# Altium footprint library IEEE_Workshop_Footprints.PcbLib: 26 footprints (part 2 of 2)
Each footprint in its own frame and in the unit in brackets; x right, y up, seen from the top. Pads: shape width x height; smd on the part's side, far side on the other; paste and mask are expansions set on the pad; w line width, h text height; cw(c..) or ccw(c..) is an arc to the next point about the centre after c.
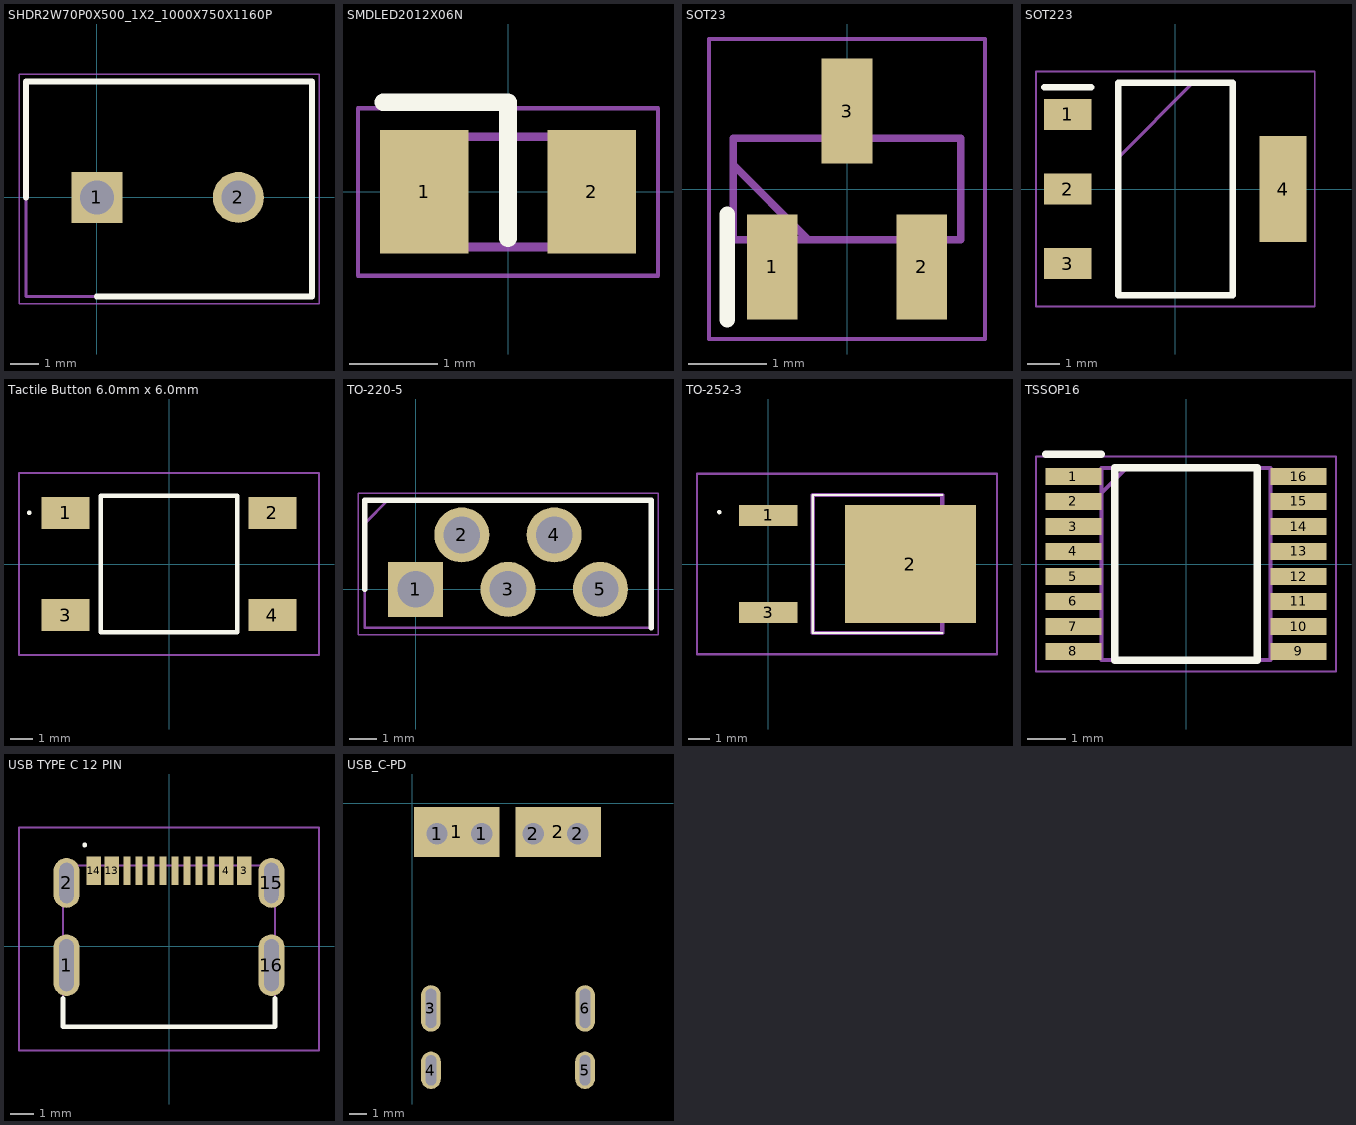
[diagram p1: the footprints below, top view; thin cyan lines are the x and y axes]

## SHDR2W70P0X500_1X2_1000X750X1160P [mm]
pads (2):
  rect 1.8x1.8 hole 1.2: 1(0,0)
  round 1.8 hole 1.2: 2(5,0)
Top Overlay:
  lines w0.2: -2.5,0 -2.5,4.1 7.6,4.1 7.6,-3.5 0,-3.5
Mechanical 13:
  lines w0.1: -2.5,-3.5 7.6,-3.5 7.6,4.1 -2.5,4.1 -2.5,-3.5
Mechanical 15:
  lines w0.05: -2.75,-3.75 7.85,-3.75 7.85,4.35 -2.75,4.35 -2.75,-3.75
3D body "691137710002.stp": height 11.5, standoff -3.6, extent -2.45,-3.45 7.55,4.05

## SMDLED2012X06N [mm] "Chip LED, 2-Leads, Body 2.00x1.20mm"
height 0.6
pads (2):
  rect 1x1.4 smd: 1(-0.95,0) 2(0.95,0)
Top Overlay:
  lines w0.2: -1.414,1.016 0,1.016 0,-0.525
Mechanical 13:
  lines w0.1: -1,-0.625 1,-0.625 1,0.625 -1,0.625 -1,-0.625
Mechanical 15:
  lines w0.05: -1.7,-0.95 1.7,-0.95 1.7,0.95 -1.7,0.95 -1.7,-0.95
3D body "CR0805-FX-1781ELF.stp": height 0.5, standoff 0, extent -1,-0.625 1,0.625

## SOT23 [mm]
pads (3):
  rect 0.65x1.35 smd: 1(-0.96,-1) 2(0.96,-1) 3(0,1)
Top Overlay:
  lines w0.2: -1.535,-1.675 -1.535,-0.325
Mechanical 13:
  lines w0.1: -1.46,0.31 -0.5,-0.65 ; -1.46,-0.65 -1.46,0.65 1.46,0.65 1.46,-0.65 -1.46,-0.65
Mechanical 15:
  lines w0.05: -1.77,-1.925 -1.77,1.925 1.77,1.925 1.77,-1.925 -1.77,-1.925
3D body "BAT54C,215.stp": height 0.95, standoff 0, extent -1.452,-1.201 1.448,1.199

## SOT223 [mm]
pads (4):
  rect 1.45x0.95 smd: 1(-3.3,2.29) 2(-3.3,0) 3(-3.3,-2.29)
  rect 1.45x3.25 smd: 4(3.3,0)
Top Overlay:
  lines w0.2: -4.025,3.115 -2.575,3.115 ; -1.752,-3.252 -1.752,3.252 1.752,3.252 1.752,-3.252 -1.752,-3.252
Mechanical 13:
  lines w0.1: -1.752,0.962 0.538,3.252 ; -1.752,-3.252 -1.752,3.252 1.752,3.252 1.752,-3.252 -1.752,-3.252
Mechanical 15:
  lines w0.05: -4.275,-3.605 -4.275,3.605 4.275,3.605 4.275,-3.605 -4.275,-3.605
3D body "AMS1117-3.3.stp": height 1.8, standoff 0, extent -3.355,-3.15 3.355,3.15

## Tactile Button 6.0mm x 6.0mm [mm]
pads (4):
  rect 2.1x1.4 smd: 1(-4.55,2.25) 2(4.55,2.25) 3(-4.55,-2.25) 4(4.55,-2.25)
Top Overlay:
  lines w0.1: -6.2,2.25 cw(c-6.15,2.25) -6.1,2.25 cw(c-6.15,2.25) -6.2,2.25
  lines w0.2: -3,-3 3,-3 3,3 -3,3 -3,-3
Mechanical 13:
  lines w0.1: -3,-3 3,-3 3,3 -3,3 -3,-3
Mechanical 15:
  lines w0.1: -6.6,-4 6.6,-4 6.6,4 -6.6,4 -6.6,-4
3D body "TS04-66-73-BK-100-SMT.stp": height 7.4, standoff 0, extent -5,-3 5,3

## TO-220-5 [mm]
pads (5):
  rect 2.025x2.025 hole 1.35: 1(0,0)
  round 2.025 hole 1.35: 2(1.7,2) 3(3.4,0) 4(5.1,2) 5(6.8,0)
Top Overlay:
  lines w0.2: -1.87,0 -1.87,3.28 8.67,3.28 8.67,-1.42
Mechanical 13:
  lines w0.1: -1.87,2.43 -1.02,3.28 ; -1.87,-1.42 8.67,-1.42 8.67,3.28 -1.87,3.28 -1.87,-1.42
Mechanical 15:
  lines w0.05: -2.12,-1.67 8.92,-1.67 8.92,3.53 -2.12,3.53 -2.12,-1.67
3D body "LM2576WT.stp": height 17.61, standoff -6, extent -1.68,-1.42 8.48,3.28

## TO-252-3 [mm]
pads (3):
  rect 2.75x1 smd: 1(0,2.29) 3(0,-2.29)
  rect 6.15x5.55 smd: 2(6.7,0)
Top Overlay:
  lines w0.1: 8.2,-3.25 2.1,-3.25 2.1,3.25 8.2,3.25
  lines w0.104: -2.353,2.444 ccw(c-2.301,2.444) -2.249,2.444 ccw(c-2.301,2.444) -2.353,2.444
Mechanical 13:
  lines w0.2: 2.1,-3.25 8.2,-3.25 8.2,3.25 2.1,3.25 2.1,-3.25
Mechanical 15:
  lines w0.1: -3.353,-4.25 10.775,-4.25 10.775,4.25 -3.353,4.25 -3.353,-4.25
3D body "UA78M33CKVURG3.stp": height 2.43, standoff 0, extent -0.808,-3.263 9.297,3.263

## TSSOP16 [mm]
pads (16):
  rect 1.45x0.45 smd: 1(-2.925,2.275) 2(-2.925,1.625) 3(-2.925,0.975) 4(-2.925,0.325) 5(-2.925,-0.325) 6(-2.925,-0.975) 7(-2.925,-1.625) 8(-2.925,-2.275) 9(2.925,-2.275) 10(2.925,-1.625) 11(2.925,-0.975) 12(2.925,-0.325) 13(2.925,0.325) 14(2.925,0.975) 15(2.925,1.625) 16(2.925,2.275)
Top Overlay:
  lines w0.2: -3.65,2.85 -2.2,2.85 ; -1.85,-2.5 1.85,-2.5 1.85,2.5 -1.85,2.5 -1.85,-2.5
Mechanical 13:
  lines w0.1: -2.2,1.85 -1.55,2.5 ; -2.2,-2.5 2.2,-2.5 2.2,2.5 -2.2,2.5 -2.2,-2.5
Mechanical 15:
  lines w0.05: -3.9,-2.8 3.9,-2.8 3.9,2.8 -3.9,2.8 -3.9,-2.8
3D body "MC74HC4052ADTR2G.stp": height 1.2, standoff 0, extent -3.2,-2.5 3.2,2.5

## USB TYPE C 12 PIN [mm]
pads (16):
  oval 1.1x2.6 hole 0.6 slot 2.2 at 90 deg: 1(-4.32,-0.8) 16(4.32,-0.8)
  oval 1.1x2.1 hole 0.6 slot 1.7 at 90 deg: 2(-4.318,2.667) 15(4.318,2.667)
  rect 0.6x1.2 smd: 3(3.175,3.175) 4(2.413,3.175) 13(-2.413,3.175) 14(-3.175,3.175)
  rect 0.3x1.2 smd: 5(1.778,3.175) 6(1.27,3.175) 7(0.762,3.175) 8(0.254,3.175) 9(-0.254,3.175) 10(-0.762,3.175) 11(-1.27,3.175) 12(-1.778,3.175)
Top Overlay:
  lines w0.1: -3.556,4.218 cw(c-3.556,4.268) -3.556,4.318 cw(c-3.556,4.268) -3.556,4.218
  lines w0.2: -4.47,-2.2 -4.47,-3.4 4.47,-3.4 4.47,-2.2
Mechanical 13:
  lines w0.1: -4.47,-3.4 4.47,-3.4 4.47,3.4 -4.47,3.4 -4.47,-3.4
Mechanical 15:
  lines w0.1: -6.325,-4.4 6.325,-4.4 6.325,5.005 -6.325,5.005 -6.325,-4.4
3D body "USB4125-GF-A-0190.stp": height 3.26, standoff -2.15, extent -4.343,-3.471 4.597,3.429

## USB_C-PD [mm]
pads (10):
  round 2 hole 1.2: 1(1.4,-1.7) 1(3.9,-1.7) 2(6.8,-1.7) 2(9.3,-1.7)
  rect 4.8x2.8 smd: 1(2.5,-1.6) 2(8.2,-1.6)
  oval 1.1x2.6 hole 0.6 slot 2.2 at 90 deg: 3(1.06,-11.5) 6(9.7,-11.5)
  oval 1.1x2.1 hole 0.6 slot 1.7 at 90 deg: 4(1.062,-14.967) 5(9.698,-14.967)
3D body: height 1.7, standoff 0, extent 0,-16.5 10.7,0
3D body "USB4125-GF-A-0190.stp": height 4.96, standoff -0.45, extent 1.035,-17.638 9.975,-10.738